# EAGLE library part 6PIN_953442_1 (library Connectors)
TE Conenctivity 953442-1 6-pin Header with Pinholes
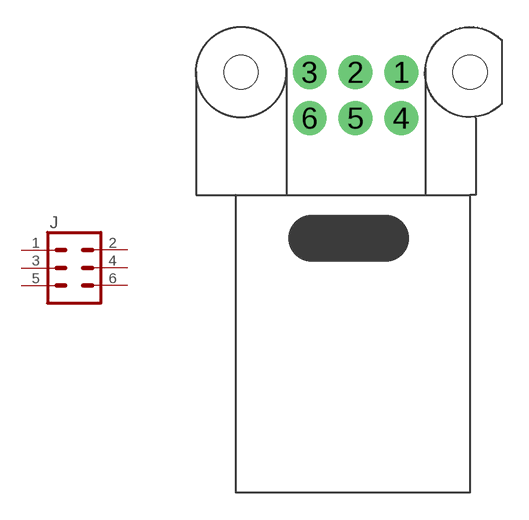
[diagram p0: symbol with the pads of TE_MQS_6PIN; footprint TE_MQS_6PIN]

Designator prefix J

## 6PIN_953442_1 (MFG: TE; PN: 953442-1)  [TE_MQS_6PIN]
1  1
2  2
3  3
4  4
5  5
6  6

## Footprint TE_MQS_6PIN (pad centres in mm)
TE MQS 6-pin Keyed Connector
drill 1.016 pad 1.88: 1 5.08,2.54; 2 2.54,2.54; 3 0,2.54; 4 5.08,0; 5 2.54,0; 6 0,0
hole 1.9 at -3.81,2.54
hole 1.9 at 8.89,2.54